# Altium footprint library FromBinXu.PcbLib: 29 footprints (part 1 of 2)
Each footprint in its own frame and in the unit in brackets; x right, y up, seen from the top. Pads: shape width x height; smd on the part's side, far side on the other; paste and mask are expansions set on the pad; w line width, h text height; cw(c..) or ccw(c..) is an arc to the next point about the centre after c.
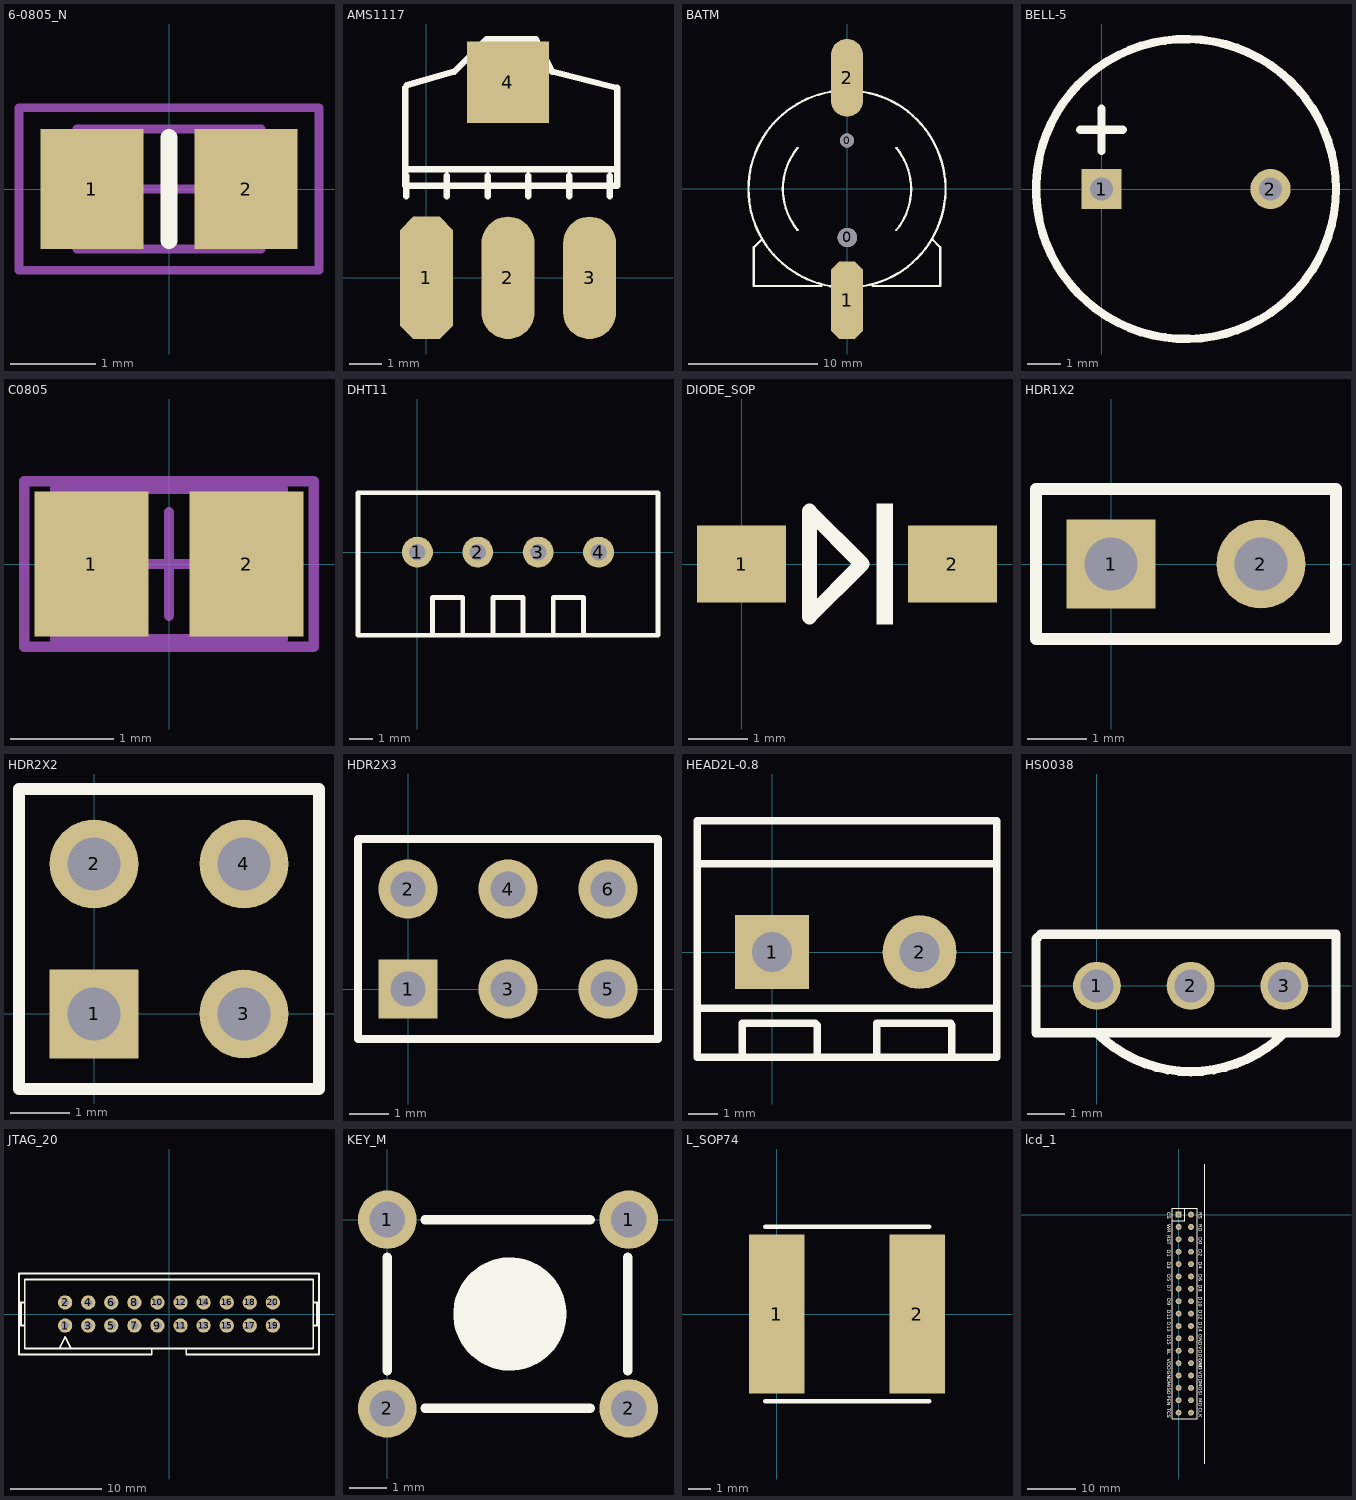
[diagram p0: the footprints below, top view; thin cyan lines are the x and y axes]

## 6-0805_N [mm]
pads (2):
  rect 1.2x1.4 smd: 1(-0.9,0) 2(0.9,0)
Top Overlay:
  lines w0.2: 0,-0.6 0,0.6
Mechanical 13:
  lines w0.1: -1.075,-0.7 -1.075,0.7 1.075,0.7 1.075,-0.7 -1.075,-0.7
Mechanical 15:
  lines w0.1: -0.5,0 0.5,0 ; 0,-0.5 0,0.5 ; -1.75,-0.95 -1.75,0.95 1.75,0.95 1.75,-0.95 -1.75,-0.95
3D body: height 0.7, standoff 0, extent -1.075,-0.7 1.075,0.7

## AMS1117 [mil]
pads (4):
  oct 65x150 smd: 1(0.03,-0.06)
  oval 65x150 smd: 2(100.03,-0.06) 3(200.03,-0.06)
  rect 100x100 smd: 4(100.03,239.94)
Top Overlay:
  lines w7.87: -25.97,232.94 -25.97,132.94 ; -24.97,99.94 -24.97,124.94 ; -24.3,236.27 34.03,252.94 74.03,292.94 134.03,292.94 154.03,252.94 234.03,232.94 234.03,112.94 ; 25.03,99.94 25.03,124.94 ; 75.03,99.94 75.03,124.94 ; 125.03,99.94 125.03,124.94 ; 175.03,99.94 175.03,124.94 ; 225.03,99.94 225.03,124.94 ; -25.97,132.94 -25.97,112.94 234.03,112.94 ; -25.97,132.94 234.03,132.94 234.03,112.94

## BATM [mm]
pads (4):
  round 1.1 hole 1.1 unplated: 0(0,3.748)
  round 1.5 hole 1.5 unplated: 0(0.025,-3.752)
  oct 2.5x6 smd: 1(0,-8.602)
  oval 2.5x6 smd: 2(0,8.598)
Top Overlay:
  lines w0.178: -6.6,-3.902 -7.2,-4.502 -7.2,-7.502 -2,-7.502 ; -3.815,-3.171 cw(c0,-0.002) -3.812,3.171 ; -0.833,-7.576 cw(c0,-0.002) -7.62,-0.002 cw(c0,-0.002) -0.833,7.573 ; 0.833,-7.576 ccw(c0,-0.002) 0.833,7.573 ; 2,-7.502 7.2,-7.502 7.2,-4.502 6.625,-3.927 ; 3.81,-3.177 ccw(c0,-0.002) 3.812,3.171

## BELL-5 [mm]
pads (2):
  rect 1.2x1.2 hole 0.7: 1(0,0)
  round 1.2 hole 0.7: 2(5.08,0)
Top Overlay:
  circle w0.254: c2.54,0 r4.51
  lines w0.254: -0.635,1.778 0.635,1.778 ; 0,1.143 0,2.413

## C0805 [mm]
pads (2):
  rect 1.1x1.4 smd: 1(-0.75,0) 2(0.75,0)
Mechanical 13:
  lines w0.1: -1.1,-0.725 1.1,-0.725 1.1,0.725 -1.1,0.725 -1.1,-0.725
Mechanical 15:
  lines w0.1: -0.5,0 0.5,0 ; 0,-0.5 0,0.5 ; -1.4,-0.8 1.4,-0.8 1.4,0.8 -1.4,0.8 -1.4,-0.8
3D body: height 1.4, standoff 0, extent -1.1,-0.725 1.1,0.725

## DHT11 [mm]
pads (4):
  round 1.3 hole 0.7: 1(0,0) 2(2.54,0) 3(5.08,0) 4(7.62,0)
Top Overlay:
  lines w0.203: -2.5,-3.5 7.62,-3.5 10.12,-3.5 ; -2.5,-3.46 -2.5,0 -2.5,2.5 7.62,2.5 10.12,2.5 10.12,0 10.12,-3.46 ; 0.635,-3.5 0.635,-1.905 1.905,-1.905 1.905,-3.5 ; 3.175,-3.5 3.175,-1.905 4.445,-1.905 4.445,-3.5 ; 5.715,-3.5 5.715,-1.905 6.985,-1.905 6.985,-3.5

## DIODE_SOP [mm]
pads (2):
  rect 1.5x1.3 smd: 1(0,0) 2(3.556,0)
Top Overlay:
  rectangle: 2.279,-1.016 2.552,1.016
  lines w0.254: 1.143,-0.889 2.032,0 1.143,0.889 1.143,-0.889

## HDR1X2 [mm]
pads (2):
  rect 1.5x1.5 hole 0.9: 1(0,0)
  round 1.5 hole 0.9: 2(2.54,0)
Top Overlay:
  lines w0.2: -1.27,-1.27 3.81,-1.27 3.81,1.27 -1.27,1.27 -1.27,-1.27

## HDR2X2 [mm]
pads (4):
  rect 1.5x1.5 hole 0.9: 1(0,0)
  round 1.5 hole 0.9: 2(0,2.54) 3(2.54,0) 4(2.54,2.54)
Top Overlay:
  lines w0.2: -1.27,-1.27 -1.27,3.81 3.81,3.81 3.81,-1.27 -1.27,-1.27

## HDR2X3 [mm]
pads (6):
  rect 1.5x1.5 hole 0.9: 1(0,0)
  round 1.5 hole 0.9: 2(0,2.54) 3(2.54,0) 4(2.54,2.54) 5(5.08,0) 6(5.08,2.54)
Top Overlay:
  lines w0.2: 1.482,-1.27 6.35,-1.27 ; 6.35,-1.27 -1.27,-1.27 -1.27,3.81 6.35,3.81 6.35,-1.27

## HEAD2L-0.8 [mm]
pads (2):
  rect 2.5x2.5 hole 1.35: 1(0,0)
  round 2.5 hole 1.35: 2(5,0)
Top Overlay:
  lines w0.254: -2.54,-1.905 7.62,-1.905 ; -2.54,3 7.62,3 ; -1.016,-3.556 -1.016,-2.476 ; -1.016,-2.413 1.461,-2.413 1.524,-2.476 1.524,-3.556 ; 3.556,-3.493 3.556,-2.413 6.056,-2.413 ; 6.096,-3.556 6.096,-2.476 ; -2.54,-3.556 -2.54,4.445 7.62,4.445 7.62,-3.556 -2.54,-3.556

## HS0038 [mm]
pads (3):
  round 1.3 hole 0.889: 1(0,0) 2(2.54,0) 3(5.08,0)
Top Overlay:
  lines w0.254: 0,-1.27 ccw(c2.54,1.27) 5.08,-1.27 ; -1.651,-1.27 6.477,-1.27 6.477,1.397 -1.524,1.397 -1.651,1.27 -1.651,-1.27

## JTAG_20 [mil]
pads (20):
  round 62 hole 35: 1(-450,-50) 2(-450,50) 3(-350,-50) 4(-350,50) 5(-250,-50) 6(-250,50) 7(-150,-50) 8(-150,50) 9(-50,-50) 10(-50,50) 11(50,-50) 12(50,50) 13(150,-50) 14(150,50) 15(250,-50) 16(250,50) 17(350,-50) 18(350,50) 19(450,-50) 20(450,50)
Top Overlay:
  lines w8: -650,-50 -625,-50 ; -650,50 -625,50 ; -641.67,-50 -641.67,50 ; -475,-150 -450,-100 -425,-150 ; -339.57,-175 -75,-175 -75,-150 ; -325,-175 -650,-175 -650,175 650,175 650,-175 325,-175 75,-175 75,-150 ; 625,-50 650,-50 ; 625,50 650,50 ; 641.67,-50 641.67,50 ; -75,-150 75,-150 ; -75,-150 -625,-150 -625,150 625,150 625,-150 75,-150

## KEY_M [mil]
pads (4):
  round 62 hole 38: 1(0,0) 1(255.91,0) 2(0,-200) 2(255.91,-200)
Top Overlay:
  circle w60: c130,-100 r30
  lines w10: -0.03,-160 -0.03,-40 ; 39.97,-200 215,-200 ; 39.97,0 215,0 ; 255,-160 255,-40

## L_SOP74 [mm]
pads (2):
  rect 2.5x7.2 smd: 1(0,0) 2(6.35,0)
Top Overlay:
  lines w0.203: -0.508,-3.937 6.892,-3.937 ; -0.508,3.937 6.892,3.937

## lcd_1 [mm]
pads (34):
  rect 1.2x1.2 hole 0.7: 1(0,0)
  round 1.2 hole 0.7: 2(2.54,0) 3(0,-2.54) 4(2.54,-2.54) 5(-0.006,-5.082) 6(2.54,-5.08) 7(-0.006,-7.622) 8(2.534,-7.622) 9(0,-10.16) 10(2.54,-10.16) 11(0,-12.7) 12(2.54,-12.7) 13(0,-15.24) 14(2.54,-15.24) 15(0,-17.78) 16(2.54,-17.78) 17(0,-20.32) 18(2.54,-20.32) 19(0,-22.86) 20(2.54,-22.86) 21(0,-25.4) 22(2.54,-25.4) 23(0,-27.94) 24(2.54,-27.94) 25(0,-30.48) 26(2.54,-30.48) 27(0,-33.02) 28(2.54,-33.02) 29(0,-35.56) 30(2.54,-35.56) 31(0,-38.1) 32(2.54,-38.1) 33(0,-40.64) 34(2.54,-40.64)
Top Overlay:
  lines w0.203: -1.286,-41.912 -1.286,-1.212 ; -1.266,-41.912 3.814,-41.912 3.814,1.268 -1.276,1.268 -1.286,1.258 -1.286,-1.322 -1.236,-1.272 1.264,-1.272 1.264,1.268 ; -1.256,-41.912 -0.956,-41.912
  lines w0.254: 5.328,-51.172 5.328,10.378
  text "D7" at -2.292,-14.353 h0.76
  text "BL" at -2.292,-27.561 h0.76
  text "MISO" at -2.292,-34.292 h0.76
  text "TCS" at -2.292,-39.753 h0.76
  text "MO" at 4.094,-37.652 h0.76
  text "MOSI" at 4.094,-34.402 h0.76
  text "CLK" at 4.094,-39.652 h0.76
  text "PEN" at -2.292,-37.213 h0.76
  text "D11" at -2.292,-19.56 h0.76
  text "GND" at -2.292,-32.006 h0.76
  text "GND" at 4.094,-24.527 h0.76
  text "RD" at 4.094,-2.027 h0.76
  text "D0" at 4.094,-4.652 h0.76
  text "D10" at 4.094,-16.902 h0.76
  text "VDD" at 4.094,-27.027 h0.76
  text "GND" at 4.094,-29.527 h0.76
  text "VDD" at 4.094,-32.152 h0.76
  text "VDD" at -2.292,-29.593 h0.76
  text "D15" at -2.292,-24.64 h0.76
  text "D12" at 4.094,-19.527 h0.76
  text "D13" at -2.302,-22.027 h0.76
  text "D9" at -2.292,-17.147 h0.76
  text "D8" at 4.094,-14.402 h0.76
  text "D6" at 4.094,-12.277 h0.76
  text "D5" at -2.292,-12.194 h0.76
  text "D4" at 4.094,-9.652 h0.76
  text "D3" at -2.292,-9.654 h0.76
  text "D2" at 4.094,-7.152 h0.76
  text "D1" at -2.292,-7.241 h0.76
  text "RST" at -2.292,-4.193 h0.76
  text "WR" at -2.292,-2.034 h0.76
  text "CS" at -2.292,0.506 h0.76
  text "RS" at 4.094,0.473 h0.76
  text "D14" at 4.094,-22.027 h0.76
  text "BL" at -2.286,-27.559 h0.76
  text "MISO" at -2.286,-34.29 h0.76
  text "TCS" at -2.286,-39.751 h0.76
  text "MO" at 4.1,-37.65 h0.76
  text "MOSI" at 4.1,-34.4 h0.76
  text "CLK" at 4.1,-39.65 h0.76
  text "PEN" at -2.286,-37.211 h0.76
  text "D11" at -2.286,-19.558 h0.76
  text "GND" at -2.286,-32.004 h0.76
  text "GND" at 4.1,-24.525 h0.76
  text "RD" at 4.1,-2.025 h0.76
  text "D0" at 4.1,-4.65 h0.76
  text "D10" at 4.1,-16.9 h0.76
  text "VDD" at 4.1,-27.025 h0.76
  text "GND" at 4.1,-29.525 h0.76
  text "VDD" at 4.1,-32.15 h0.76
  text "VDD" at -2.286,-29.591 h0.76
  text "D15" at -2.286,-24.638 h0.76
  text "D12" at 4.1,-19.525 h0.76
  text "D9" at -2.286,-17.145 h0.76
  text "D8" at 4.1,-14.4 h0.76
  text "D6" at 4.1,-12.275 h0.76
  text "D5" at -2.286,-12.192 h0.76
  text "D4" at 4.1,-9.65 h0.76
  text "D3" at -2.286,-9.652 h0.76
  text "D2" at 4.1,-7.15 h0.76
  text "D1" at -2.286,-7.239 h0.76
  text "RST" at -2.286,-4.191 h0.76
  text "WR" at -2.286,-2.032 h0.76
  text "CS" at -2.286,0.508 h0.76
  text "RS" at 4.1,0.475 h0.76
  text "D14" at 4.1,-22.025 h0.76